# Altium integrated library GSM Module.IntLib: 5 symbols
Pins are listed as number, name and electrical type; pins without a type are passive.

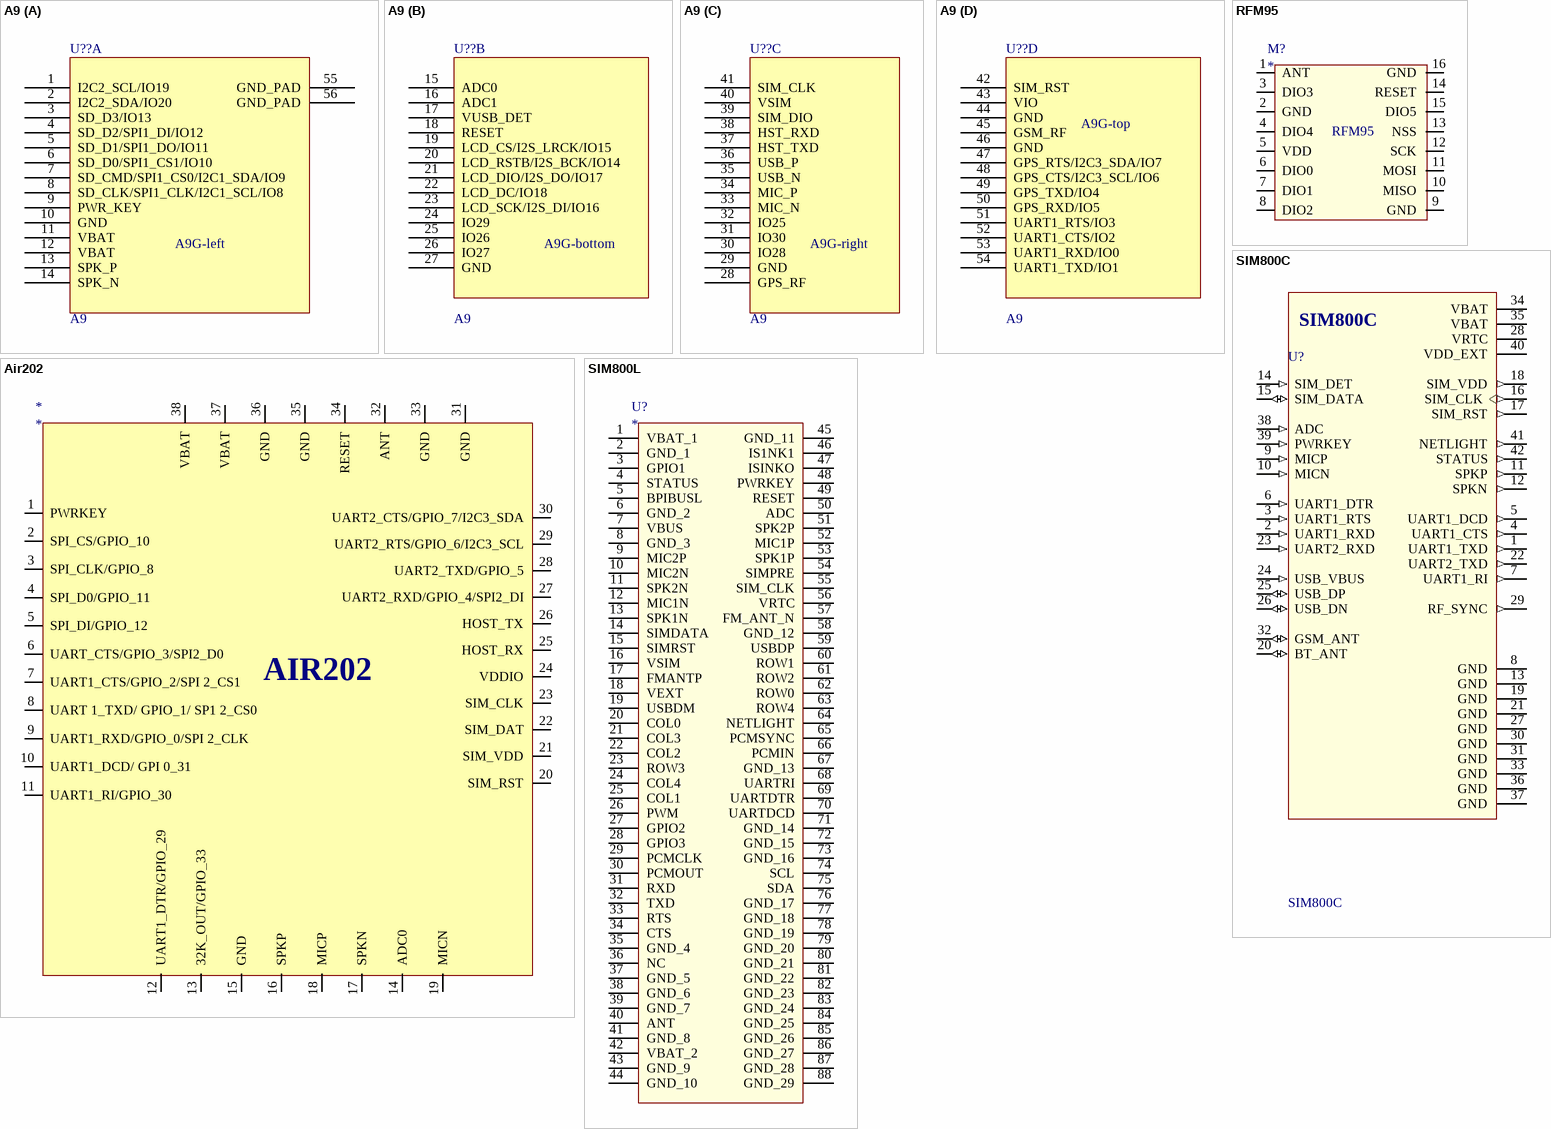
[diagram p0: symbols A9 to SIM800L]

## A9
designator U??
footprint A9
part A pins: 1 I2C2_SCL/IO19, 2 I2C2_SDA/IO20, 3 SD_D3/IO13, 4 SD_D2/SPI1_DI/IO12, 5 SD_D1/SPI1_DO/IO11, 6 SD_D0/SPI1_CS1/IO10, 7 SD_CMD/SPI1_CS0/I2C1_SDA/IO9, 8 SD_CLK/SPI1_CLK/I2C1_SCL/IO8, 9 PWR_KEY, 10 GND, 11 VBAT, 12 VBAT, 13 SPK_P, 14 SPK_N, 55 GND_PAD, 56 GND_PAD
part B pins: 15 ADC0, 16 ADC1, 17 VUSB_DET, 18 RESET, 19 LCD_CS/I2S_LRCK/IO15, 20 LCD_RSTB/I2S_BCK/IO14, 21 LCD_DIO/I2S_DO/IO17, 22 LCD_DC/IO18, 23 LCD_SCK/I2S_DI/IO16, 24 IO29, 25 IO26, 26 IO27, 27 GND
part C pins: 28 GPS_RF, 29 GND, 30 IO28, 31 IO30, 32 IO25, 33 MIC_N, 34 MIC_P, 35 USB_N, 36 USB_P, 37 HST_TXD, 38 HST_RXD, 39 SIM_DIO, 40 VSIM, 41 SIM_CLK
part D pins: 42 SIM_RST, 43 VIO, 44 GND, 45 GSM_RF, 46 GND, 47 GPS_RTS/I2C3_SDA/IO7, 48 GPS_CTS/I2C3_SCL/IO6, 49 GPS_TXD/IO4, 50 GPS_RXD/IO5, 51 UART1_RTS/IO3, 52 UART1_CTS/IO2, 53 UART1_RXD/IO0, 54 UART1_TXD/IO1
part A text: A9G-left
part B text: A9G-bottom
part C text: A9G-right
part D text: A9G-top

## Air202
designator *
footprint AIR202
pins: 1 PWRKEY, 2 SPI_CS/GPIO_10, 3 SPI_CLK/GPIO_8, 4 SPI_D0/GPIO_11, 5 SPI_DI/GPIO_12, 6 UART_CTS/GPIO_3/SPI2_D0, 7 UART1_CTS/GPIO_2/SPI 2_CS1, 8 UART 1_TXD/ GPIO_1/ SP1 2_CS0, 9 UART1_RXD/GPIO_0/SPI 2_CLK, 10 UART1_DCD/ GPI 0_31 , 11 UART1_RI/GPIO_30, 12 UART1_DTR/GPIO_29, 13 32K_OUT/GPIO_33, 14 ADC0, 15 GND, 16 SPKP, 17 SPKN, 18 MICP, 19 MICN, 20 SIM_RST, 21 SIM_VDD, 22 SIM_DAT, 23 SIM_CLK, 24 VDDIO, 25 HOST_RX, 26 HOST_TX, 27 UART2_RXD/GPIO_4/SPI2_DI, 28 UART2_TXD/GPIO_5, 29 UART2_RTS/GPIO_6/I2C3_SCL, 30 UART2_CTS/GPIO_7/I2C3_SDA, 31 GND, 32 ANT, 33 GND, 34 RESET, 35 GND, 36 GND, 37 VBAT, 38 VBAT
text: AIR202

## RFM95
designator M?
footprint RFM95
pins: 1 ANT, 2 GND, 3 DIO3, 4 DIO4, 5 VDD, 6 DIO0, 7 DIO1, 8 DIO2, 9 GND, 10 MISO, 11 MOSI, 12 SCK, 13 NSS, 14 RESET, 15 DIO5, 16 GND

## SIM800C
designator U?
Module: GSM/Bluetooth; GPRS; 2G; 1800MHz, 900MHz; 85.6kbps; SMD; MF: Simcom; SnapEDA_Link: https://www.snapeda.com/parts/SIM800C/Simcom/view-part/?ref=snap; MP: SIM800C; Package: None; Price: None; Availability: Unavailable; Value: *
footprint SIM800C
pins: 1 UART1_TXD (out), 2 UART1_RXD (in), 3 UART1_RTS (in), 4 UART1_CTS (out), 5 UART1_DCD (out), 6 UART1_DTR (in), 7 UART1_RI (out), 8 GND (power), 9 MICP (in), 10 MICN (in), 11 SPKP (out), 12 SPKN (out), 13 GND (power), 14 SIM_DET (in), 15 SIM_DATA (io), 16 SIM_CLK (out), 17 SIM_RST (out), 18 SIM_VDD (out), 19 GND (power), 20 BT_ANT (io), 21 GND (power), 22 UART2_TXD (out), 23 UART2_RXD (in), 24 USB_VBUS (in), 25 USB_DP (io), 26 USB_DN (io), 27 GND (power), 28 VRTC (power), 29 RF_SYNC (out), 30 GND (power), 31 GND (power), 32 GSM_ANT (io), 33 GND (power), 34 VBAT (power), 35 VBAT (power), 36 GND (power), 37 GND (power), 38 ADC (in), 39 PWRKEY (in), 40 VDD_EXT (power), 41 NETLIGHT (out), 42 STATUS (out)

## SIM800L
designator U?
footprint SIM800L
pins: 1 VBAT_1, 2 GND_1, 3 GPIO1, 4 STATUS, 5 BPIBUSL, 6 GND_2, 7 VBUS, 8 GND_3, 9 MIC2P, 10 MIC2N, 11 SPK2N, 12 MIC1N, 13 SPK1N, 14 SIMDATA, 15 SIMRST, 16 VSIM, 17 FMANTP, 18 VEXT, 19 USBDM, 20 COL0, 21 COL3, 22 COL2, 23 ROW3, 24 COL4, 25 COL1, 26 PWM, 27 GPIO2, 28 GPIO3, 29 PCMCLK, 30 PCMOUT, 31 RXD, 32 TXD, 33 RTS, 34 CTS, 35 GND_4, 36 NC, 37 GND_5, 38 GND_6, 39 GND_7, 40 ANT, 41 GND_8, 42 VBAT_2, 43 GND_9, 44 GND_10, 45 GND_11, 46 IS1NK1, 47 ISINKO, 48 PWRKEY, 49 RESET, 50 ADC, 51 SPK2P, 52 MIC1P, 53 SPK1P, 54 SIMPRE, 55 SIM_CLK, 56 VRTC, 57 FM_ANT_N, 58 GND_12, 59 USBDP, 60 ROW1, 61 ROW2, 62 ROW0, 63 ROW4, 64 NETLIGHT, 65 PCMSYNC, 66 PCMIN, 67 GND_13, 68 UARTRI, 69 UARTDTR, 70 UARTDCD, 71 GND_14, 72 GND_15, 73 GND_16, 74 SCL, 75 SDA, 76 GND_17, 77 GND_18, 78 GND_19, 79 GND_20, 80 GND_21, 81 GND_22, 82 GND_23, 83 GND_24, 84 GND_25, 85 GND_26, 86 GND_27, 87 GND_28, 88 GND_29